# EAGLE library part 6844A (library mynixies)
A Burroughs 6844A nixie tube - or one of the many pin-compatible tubes
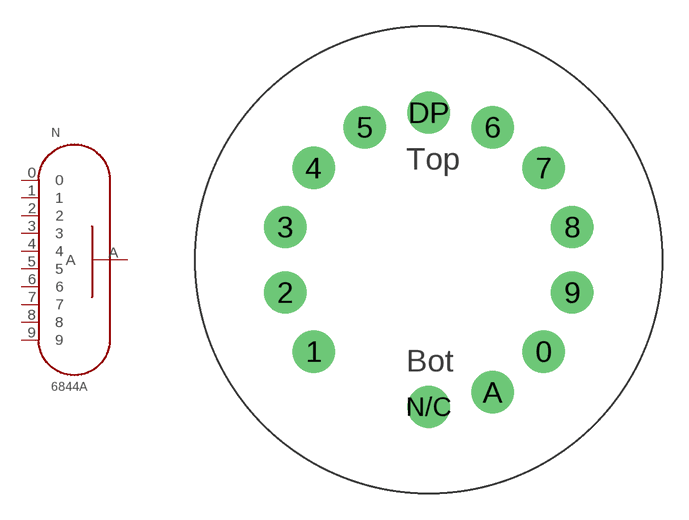
[diagram p0: symbol with the pads of 6844A-D-SUB; footprint 6844A-D-SUB]

Designator prefix N

## 6844AD-SUB  [6844A-D-SUB]
0  0  pas
1  1  pas
2  2  pas
3  3  pas
4  4  pas
5  5  pas
6  6  pas
7  7  pas
8  8  pas
9  9  pas
A  A  pas

## Footprint 6844A-D-SUB (pad centres in mm)
This footprint uses female D-SUB pins as 'sockets'.
drill 1.6: 0 6.514,-5.194; 1 -6.514,-5.194; 2 -8.122,-1.853; 3 -8.122,1.854; 4 -6.513,5.195; 5 -3.614,7.506; 6 3.615,7.506; 7 6.514,5.194; 8 8.122,1.854; 9 8.122,-1.854; A 3.615,-7.506; DP 0,8.331; N/C 0,-8.331